# Altium schematic symbol library MX-02.SchLib: 1 symbol
Pins are listed as number, name and electrical type; pins without a type are passive.

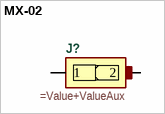
[diagram p0: symbol MX-02]

## MX-02
designator J?
=Description
pins: 1, 2